# EAGLE library part DRV8332DKD (library DRV8332DKD)
Check availability <https://pricing.snapeda.com/parts/DRV8332DKD/Texas%20Instruments/view-part?ref=eda>
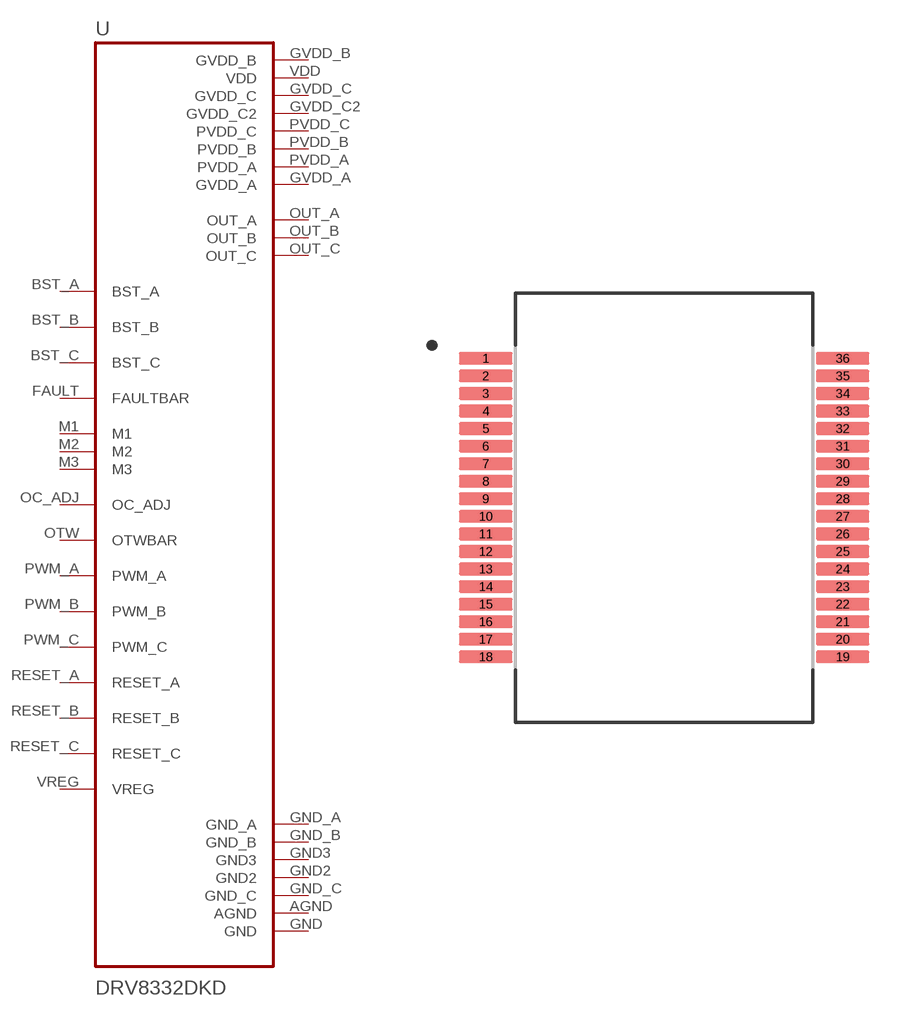
[diagram p0: symbol with the pads of SOP65P1420X360-36N; footprint SOP65P1420X360-36N]

Designator prefix -

## DRV8332DKD (Availability: In Stock; Description: 70-V max high-current 3-phase motor driver with heatsink connection 36-HSSOP -40 to 85; MF: Texas Instruments; MP: DRV8332DKD; Package: HSSOP-36 Texas Instruments; Price: None; Purchase-URL: https://pricing.snapeda.com/search/part/DRV8332DKD/?ref=eda)  [SOP65P1420X360-36N]
AGND  AGND  pwr
BST_A  BST_A
BST_B  BST_B
BST_C  BST_C
FAULT  FAULTBAR
GND  GND  pwr
GND2  GND2  pwr
GND3  GND3  pwr
GND_A  GND_A  pwr
GND_B  GND_B  pwr
GND_C  GND_C  pwr
GVDD_A  GVDD_A  pwr
GVDD_B  GVDD_B  pwr
GVDD_C  GVDD_C  pwr
GVDD_C2  GVDD_C2  pwr
M1  M1
M2  M2
M3  M3
OC_ADJ  OC_ADJ
OTW  OTWBAR
OUT_A  OUT_A  out
OUT_B  OUT_B  out
OUT_C  OUT_C  out
PVDD_A  PVDD_A  pwr
PVDD_B  PVDD_B  pwr
PVDD_C  PVDD_C  pwr
PWM_A  PWM_A
PWM_B  PWM_B
PWM_C  PWM_C
RESET_A  RESET_A
RESET_B  RESET_B
RESET_C  RESET_C
VDD  VDD  pwr
VREG  VREG

## Footprint SOP65P1420X360-36N (pad centres in mm)
smd 1.99 x 0.48: 1 -6.61,5.525; 2 -6.61,4.875; 3 -6.61,4.225; 4 -6.61,3.575; 5 -6.61,2.925; 6 -6.61,2.275; 7 -6.61,1.625; 8 -6.61,0.975; 9 -6.61,0.325; 10 -6.61,-0.325; 11 -6.61,-0.975; 12 -6.61,-1.625; 13 -6.61,-2.275; 14 -6.61,-2.925; 15 -6.61,-3.575; 16 -6.61,-4.225; 17 -6.61,-4.875; 18 -6.61,-5.525; 19 6.61,-5.525; 20 6.61,-4.875; 21 6.61,-4.225; 22 6.61,-3.575; 23 6.61,-2.925; 24 6.61,-2.275; 25 6.61,-1.625; 26 6.61,-0.975; 27 6.61,-0.325; 28 6.61,0.325; 29 6.61,0.975; 30 6.61,1.625; 31 6.61,2.275; 32 6.61,2.925; 33 6.61,3.575; 34 6.61,4.225; 35 6.61,4.875; 36 6.61,5.525